# Altium schematic symbol library PCBComponents.SchLib: 3 symbols
Pins are listed as number, name and electrical type; pins without a type are passive.

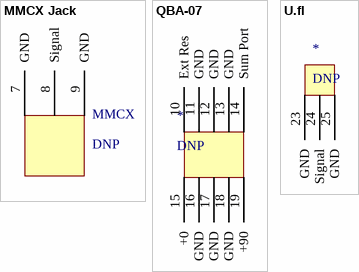
[diagram p0: symbols MMCX Jack to U.fl]

## MMCX Jack
designator MMCX, comment DNP
footprint MMCX
pins: 7 GND, 8 Signal, 9 GND

## QBA-07
designator *, comment DNP
footprint QBA07
pins: 10 Ext Res, 11 GND, 12 GND, 13 GND, 14 Sum Port, 15 +0, 16 GND, 17 GND, 18 GND, 19 +90

## U.fl
designator *, comment DNP
footprint U.fl
pins: 23 GND, 24 Signal, 25 GND